# Altium footprint library PCB1.PcbLib: 13 footprints
Each footprint in its own frame and in the unit in brackets; x right, y up, seen from the top. Pads: shape width x height; smd on the part's side, far side on the other; paste and mask are expansions set on the pad; w line width, h text height; cw(c..) or ccw(c..) is an arc to the next point about the centre after c.
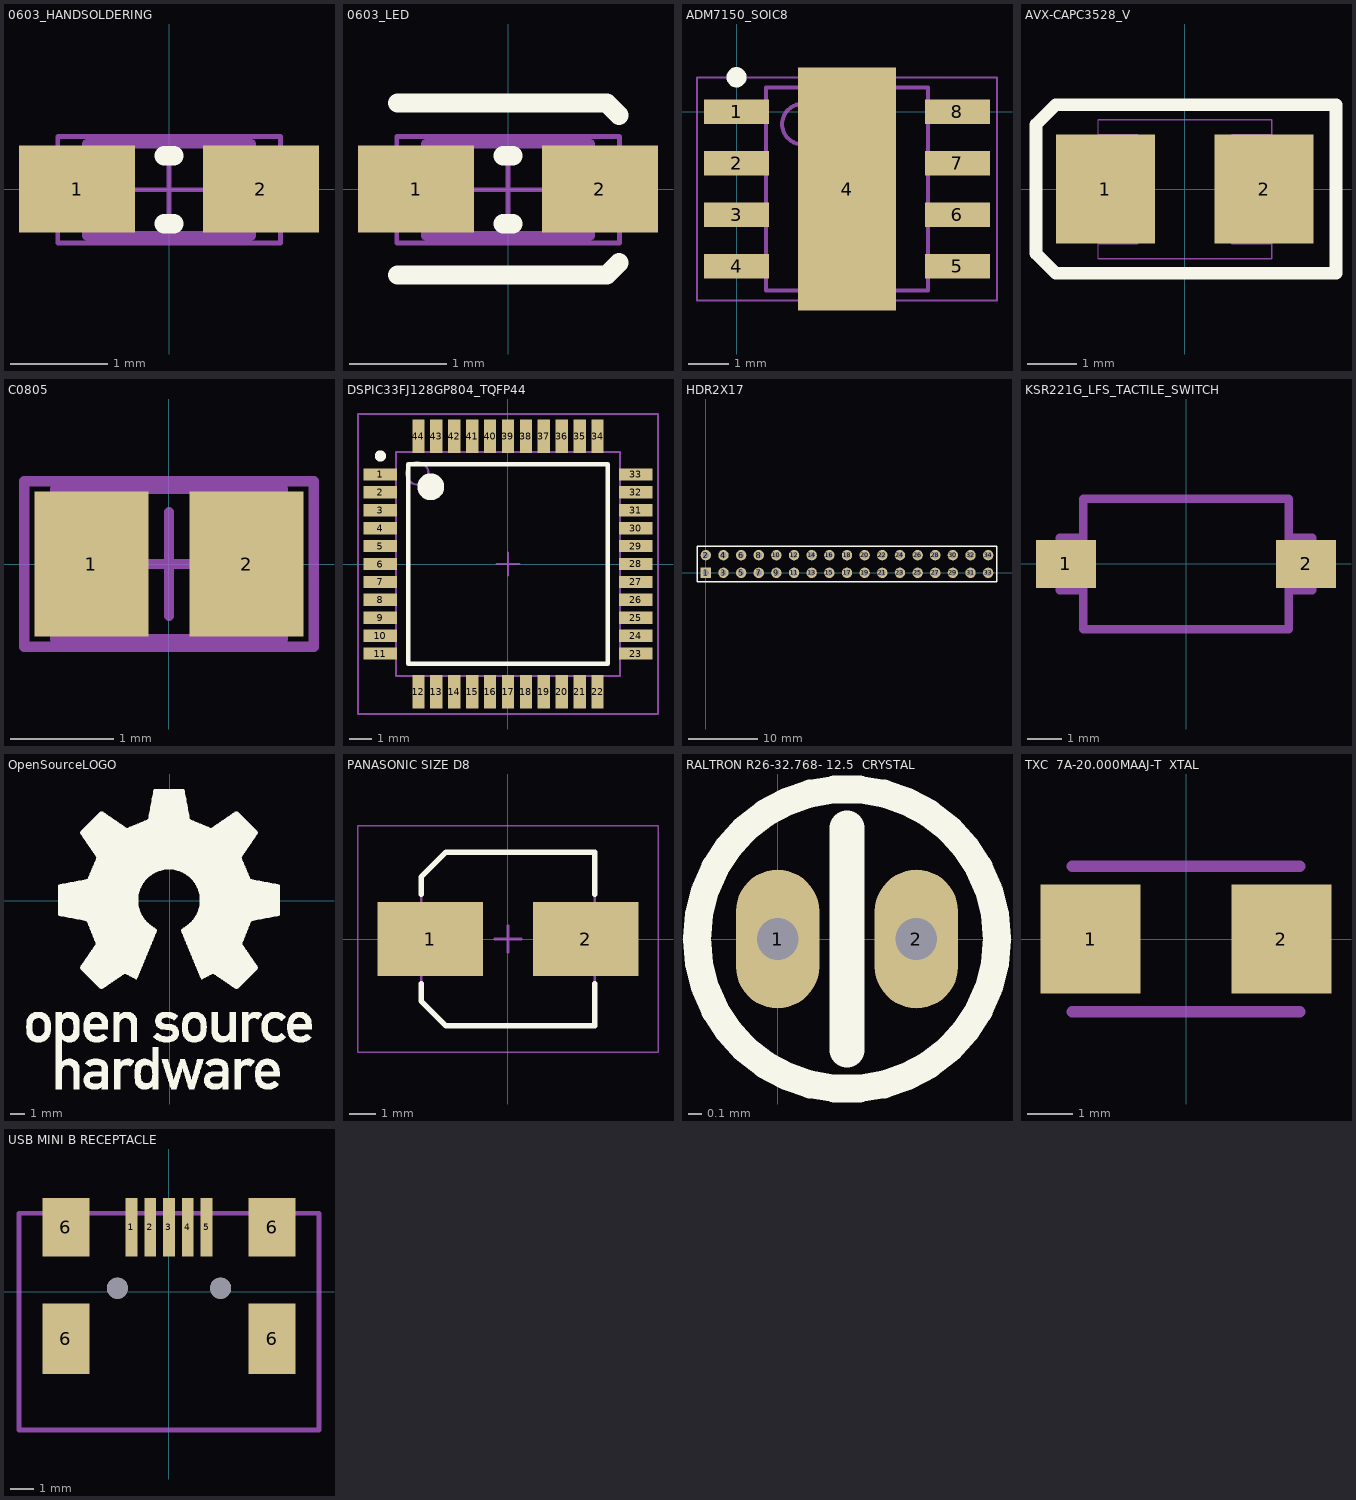
[diagram p0: the footprints below, top view; thin cyan lines are the x and y axes]

## 0603_HANDSOLDERING [mm] "Chip Resistor, 2-Leads, Body 1.6x0.8mm, IPC Medium Density"
height 0.6
pads (2):
  rect 1.2x0.9 smd: 1(-0.954,0) 2(0.946,0)
Top Overlay:
  lines w0.2: -0.053,-0.358 0.047,-0.358 ; -0.053,0.342 0.047,0.342
Mechanical 13:
  lines w0.1: -0.853,-0.483 -0.853,0.467 0.847,0.467 0.847,-0.483 -0.853,-0.483
Mechanical 15:
  lines w0.05: -0.478,-0.008 0.472,-0.008 ; -0.003,-0.483 -0.003,0.467 ; -1.153,-0.558 -1.153,0.542 1.147,0.542 1.147,-0.558 -1.153,-0.558
3D body: height 0.6, standoff 0, extent 0.578,-0.482 0.847,0.467
3D body: height 0.6, standoff 0, extent -0.583,-0.482 0.578,0.467
3D body: height 0.6, standoff 0, extent -0.852,-0.482 -0.583,0.467

## 0603_LED [mm] "SMD LED, Body 1.6x0.8mm"
height 0.6
pads (2):
  rect 1.2x0.9 smd: 1(-0.954,0) 2(0.946,0)
Top Overlay:
  lines w0.2: -1.143,-0.889 1.016,-0.889 1.143,-0.762 ; -1.143,0.889 1.016,0.889 1.143,0.762 ; -0.053,-0.358 0.047,-0.358 ; -0.053,0.342 0.047,0.342
Mechanical 13:
  lines w0.1: -0.853,-0.483 -0.853,0.467 0.847,0.467 0.847,-0.483 -0.853,-0.483
Mechanical 15:
  lines w0.05: -0.478,-0.008 0.472,-0.008 ; -0.003,-0.483 -0.003,0.467 ; -1.153,-0.558 -1.153,0.542 1.147,0.542 1.147,-0.558 -1.153,-0.558
3D body: height 0.6, standoff 0, extent 0.578,-0.482 0.847,0.467
3D body: height 0.6, standoff 0, extent -0.583,-0.482 0.578,0.467
3D body: height 0.6, standoff 0, extent -0.852,-0.482 -0.583,0.467

## ADM7150_SOIC8 [mm] "SOIC, 8-Leads, Body 4,90x3,90mm, Pitch 1,27mm, Thermal Pad 6,00x2,41mm, IPC Medium Density"
height 1.65
pads (9):
  rect 1.6x0.6 smd: 1(0,0) 2(0,-1.27) 3(0,-2.54) 4(0,-3.81) 5(5.45,-3.81) 6(5.45,-2.54) 7(5.45,-1.27) 8(5.45,0)
  rect 2.41x6 smd: 4(2.725,-1.905)
Top Overlay:
  circle w0.25: c0,0.85 r0.125
Mechanical 13:
  circle w0.1: c1.625,-0.305 r0.5
  lines w0.1: 0.725,-4.405 4.725,-4.405 4.725,0.595 0.725,0.595 0.725,-4.405
Mechanical 15:
  lines w0.05: -0.975,-4.655 6.425,-4.655 6.425,0.845 -0.975,0.845 -0.975,-4.655
  lines w0.1: 2.225,-1.905 3.225,-1.905 ; 2.725,-2.405 2.725,-1.405
3D body: height 1.65, standoff 0.1, extent 0.725,-4.405 4.725,0.595

## AVX-CAPC3528_V [mm] "SMT Capacitor, 2 Leads, Body 3.5x2.8mm"
pads (2):
  rect 2x2.2 smd: 1(-1.6,0) 2(1.6,0)
Top Overlay:
  lines w0.254: -3,-1.3 -3,1.3 -2.6,1.7 3.05,1.7 3.05,-1.7 -2.6,-1.7 -3,-1.3
Mechanical 7:
  lines w0.025: -1.748,-1.404 1.752,-1.404 1.752,1.396 -1.748,1.396 ; -1.748,-1.104 -0.948,-1.104 -0.948,1.096 -1.748,1.096 ; -1.748,-1.404 -1.748,1.396 ; 1.752,-1.104 0.952,-1.104 0.952,1.096 1.752,1.096
3D body: height 1.9, standoff 0, extent -1.704,-1.539 1.763,1.537
3D body: height 0.3, standoff 0, extent 1.578,-0.658 1.803,0.768
3D body: height 0.3, standoff 0, extent -1.793,-0.665 -1.568,0.824

## C0805 [mm] "Chip Capacitor, Body 2.0x1.3mm, IPC High Density"
height 1.4
pads (2):
  rect 1.1x1.4 smd: 1(-0.75,0) 2(0.75,0)
Mechanical 13:
  lines w0.1: -1.1,-0.725 1.1,-0.725 1.1,0.725 -1.1,0.725 -1.1,-0.725
Mechanical 15:
  lines w0.1: -0.5,0 0.5,0 ; 0,-0.5 0,0.5 ; -1.4,-0.8 1.4,-0.8 1.4,0.8 -1.4,0.8 -1.4,-0.8
3D body: height 1.4, standoff 0, extent -1.1,-0.725 1.1,0.725

## DSPIC33FJ128GP804_TQFP44 [mm] "TQFP, 44-Leads, Body 12,0x12,0mm (max), Pitch 0,80mm, IPC Medium Density"
height 1.2
pads (44):
  rect 1.5x0.55 smd: 1(-5.7,4) 2(-5.7,3.2) 3(-5.7,2.4) 4(-5.7,1.6) 5(-5.7,0.8) 6(-5.7,0) 7(-5.7,-0.8) 8(-5.7,-1.6) 9(-5.7,-2.4) 10(-5.7,-3.2) 11(-5.7,-4) 23(5.7,-4) 24(5.7,-3.2) 25(5.7,-2.4) 26(5.7,-1.6) 27(5.7,-0.8) 28(5.7,0) 29(5.7,0.8) 30(5.7,1.6) 31(5.7,2.4) 32(5.7,3.2) 33(5.7,4)
  rect 0.55x1.5 smd: 12(-4,-5.7) 13(-3.2,-5.7) 14(-2.4,-5.7) 15(-1.6,-5.7) 16(-0.8,-5.7) 17(0,-5.7) 18(0.8,-5.7) 19(1.6,-5.7) 20(2.4,-5.7) 21(3.2,-5.7) 22(4,-5.7) 34(4,5.7) 35(3.2,5.7) 36(2.4,5.7) 37(1.6,5.7) 38(0.8,5.7) 39(0,5.7) 40(-0.8,5.7) 41(-1.6,5.7) 42(-2.4,5.7) 43(-3.2,5.7) 44(-4,5.7)
Top Overlay:
  circle w0.6: c-3.45,3.45 r0.3
  circle w0.25: c-5.7,4.825 r0.125
  lines w0.2: -4.45,-4.45 4.45,-4.45 4.45,4.45 -4.45,4.45 -4.45,-4.45
Mechanical 13:
  circle w0.1: c-4.05,4.05 r0.5
  lines w0.1: -5,-5 5,-5 5,5 -5,5 -5,-5
Mechanical 15:
  lines w0.1: -0.5,0 0.5,0 ; 0,-0.5 0,0.5 ; -6.7,-6.7 6.7,-6.7 6.7,6.7 -6.7,6.7 -6.7,-6.7
3D body: height 1.2, standoff 0.05, extent -5,-5 5,5

## HDR2X17 [mm] "Connector; Header; 17x2 Position"
pads (34):
  rect 1.5x1.5 hole 0.9: 1(0,0)
  round 1.5 hole 0.9: 2(0,2.54) 3(2.54,0) 4(2.54,2.54) 5(5.08,0) 6(5.08,2.54) 7(7.62,0) 8(7.62,2.54) 9(10.16,0) 10(10.16,2.54) 11(12.7,0) 12(12.7,2.54) 13(15.24,0) 14(15.24,2.54) 15(17.78,0) 16(17.78,2.54) 17(20.32,0) 18(20.32,2.54) 19(22.86,0) 20(22.86,2.54) 21(25.4,0) 22(25.4,2.54) 23(27.94,0) 24(27.94,2.54) 25(30.48,0) 26(30.48,2.54) 27(33.02,0) 28(33.02,2.54) 29(35.56,0) 30(35.56,2.54) 31(38.1,0) 32(38.1,2.54) 33(40.64,0) 34(40.64,2.54)
Top Overlay:
  lines w0.2: -1.27,-1.27 41.91,-1.27 41.91,3.81 -1.27,3.81 -1.27,-1.27

## KSR221G_LFS_TACTILE_SWITCH [mm] "C & K COMPONENTS  KSR221G LFS  SWITCH, SPST, 0.05A, 32VDC, SMD"
height 2.5
pads (2):
  rect 1.75x1.4 smd: 1(-3.5,0) 2(3.5,0)
Mechanical 3:
  lines w0.254: -3,-1.905 3,-1.9 3,1.9 -3,1.9 -3,-1.9 ; -3,-0.762 -3.683,-0.762 -3.683,0.762 -3,0.762 ; 3,-0.762 3.683,-0.762 3.683,0.762 3,0.762
3D body: height 2.5, standoff 0, extent -1,-1 1,1
3D body: height 1.75, standoff 0, extent -3.175,-2.032 3.175,2.032

## OpenSourceLOGO [mm]
Top Overlay:
  drawing of 3317 lines, arcs and shapes, not listed

## PANASONIC SIZE D8 [mm] "Aluminum Electrolytic Capacitor, Body 6,60x6,60x7,70mm, IPC Low Density"
height 7.7
pads (2):
  rect 4x2.8 smd: 1(-2.95,0) 2(2.95,0)
Top Overlay:
  lines w0.2: -3.3,-1.7 -3.3,-2.35 -2.35,-3.3 3.3,-3.3 3.3,-1.7 ; -3.3,1.7 -3.3,2.35 -2.35,3.3 3.3,3.3 3.3,1.7
Mechanical 13:
  lines w0.1: -3.3,-2.35 -3.3,2.35 -2.35,3.3 3.3,3.3 3.3,-3.3 -2.35,-3.3 -3.3,-2.35
Mechanical 15:
  lines w0.05: -5.7,-4.3 5.7,-4.3 5.7,4.3 -5.7,4.3 -5.7,-4.3
  lines w0.1: -0.5,0 0.5,0 ; 0,-0.5 0,0.5
3D body: height 7.7, standoff 0, extent -3.15,-3.15 3.15,3.148
3D body: height 2.57, standoff 0, extent -3.3,-3.3 3.3,3.3

## RALTRON R26-32.768- 12.5  CRYSTAL [mm] "RALTRON  R26-32.768- 12.5  CRYSTAL, TUNING FORK, 32.768KHZ"
height 6.2
pads (2):
  oval 0.6x1 hole 0.3: 1(0,0) 2(1,0)
Top Overlay:
  circle w0.2: c0.5,0 r1.082
  lines w0.254: 0.5,-0.8 0.5,0.8
3D body: height 7.2, standoff 1, extent -0.55,-1.05 1.55,1.05

## TXC  7A-20.000MAAJ-T  XTAL [mm] "TXC  7A-20.000MAAJ-T  XTAL, 20.000MHZ, 18PF, SMD, 5.0X3.2"
height 1.2
pads (2):
  rect 2.2x2.4 smd: 1(-2.1,0) 2(2.1,0)
Mechanical 3:
  lines w0.254: -2.5,-1.6 2.5,-1.6 ; -2.5,1.6 2.5,1.6
3D body: height 1.2, standoff 0, extent -2.5,-1.6 2.5,1.6

## USB MINI B RECEPTACLE [mm] "popravek"
pads (11):
  rect 0.5x2.5 smd: 1(-1.6,2.75) 2(-0.8,2.75) 3(0,2.75) 4(0.8,2.75) 5(1.6,2.75)
  rect 2x3 smd: 6(-4.4,-2) 6(4.4,-2)
  rect 2x2.5 smd: 6(-4.4,2.75) 6(4.4,2.75)
  round 0.9 hole 0.9: ""(-2.2,0.15) ""(2.2,0.15)
Mechanical 15:
  lines w0.2: -6.4,-5.9 6.4,-5.9 6.4,3.35 -6.4,3.35 -6.4,-5.9
3D body: height 4, standoff -0.95, extent -4.95,-5.75 4.95,3.25